# Altium schematic symbol library GDT气体放电管.SchLib: 1 symbol
Pins are listed as number, name and electrical type; pins without a type are passive.

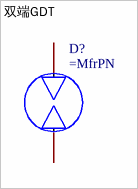
[diagram p0: symbol 双端GDT]

## 双端GDT
designator D?
pins: 1, 2